# Altium footprint library VOM.PcbLib: 19 footprints (part 1 of 2)
Each footprint in its own frame and in the unit in brackets; x right, y up, seen from the top. Pads: shape width x height; smd on the part's side, far side on the other; paste and mask are expansions set on the pad; w line width, h text height; cw(c..) or ccw(c..) is an arc to the next point about the centre after c.
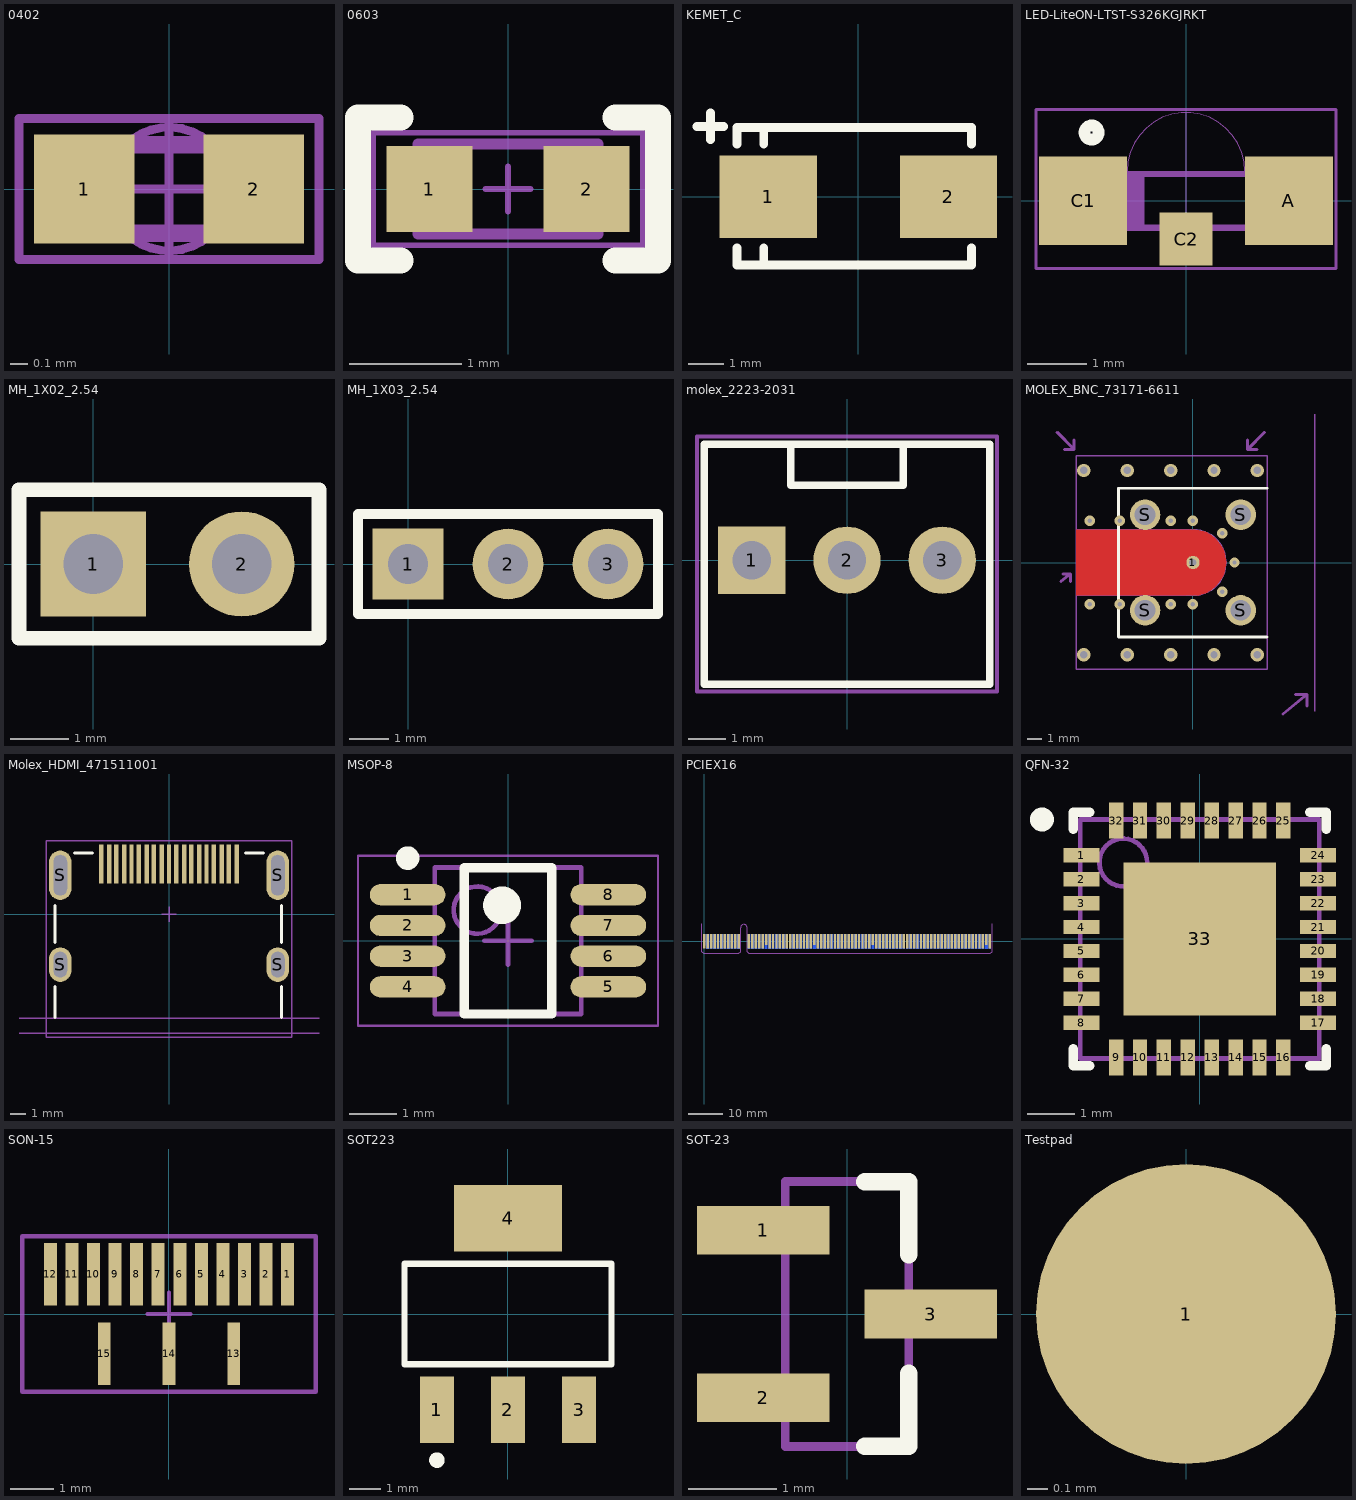
[diagram p0: the footprints below, top view; thin cyan lines are the x and y axes]

## 0402 [mm]
pads (2):
  rect 0.57x0.62 smd: 1(-0.48,0) 2(0.48,0)
Mechanical 13:
  lines w0.1: -0.5,-0.25 -0.5,0.25 0.5,0.25 0.5,-0.25 -0.5,-0.25
Mechanical 15:
  circle w0.05: c0,0 r0.35
  lines w0.05: -0.5,0 0.5,0 ; 0,-0.4 0,0.4 ; -0.85,-0.4 -0.85,0.4 0.85,0.4 0.85,-0.4 -0.85,-0.4
3D body: height 0.35, standoff 0, extent -0.525,-0.275 0.525,0.275

## 0603 [mil]
pads (2):
  rect 30x30 smd: 1(-27.5,0) 2(27.5,0)
Top Overlay:
  lines w9: -37.5,-25 -52.5,-25 -52.5,25 -37.5,25 ; 37.5,-25 52.5,-25 52.5,25 37.5,25
Mechanical 13:
  lines w3.94: -31.5,-15.75 -31.5,15.75 31.5,15.75 31.5,-15.75 -31.5,-15.75
Mechanical 15:
  lines w2: -7.87,0 7.87,0 ; 0,-7.87 0,7.87 ; -47.24,-19.68 -47.24,19.68 47.24,19.68 47.24,-19.68 -47.24,-19.68
3D body: height 18.21, standoff -0.49, extent -32.39,-16.23 32.53,16.25

## KEMET_C [mm]
pads (2):
  rect 2.77x2.35 smd: 1(-2.57,0) 2(2.57,0)
Top Overlay:
  lines w0.254: -4.601,2 -3.839,2 ; -4.22,1.619 -4.22,2.381 ; -3.458,-1.467 -3.458,-1.95 3.23,-1.95 3.23,-1.467 ; -3.458,1.492 -3.458,1.975 3.23,1.975 3.23,1.492 ; -2.696,-1.925 -2.696,-1.467 ; -2.696,1.492 -2.696,1.95
3D body: height 2.81, standoff 0.01, extent -3.245,-1.725 3.055,1.775

## LED-LiteON-LTST-S326KGJRKT [mm]
pads (3):
  rect 1.5x1.5 smd: A(1.75,0) C1(-1.75,0)
  rect 0.9x0.9 smd: C2(0,-0.65)
Top Overlay:
  circle w0.2: c-1.605,1.16 r0.12
Mechanical 1:
  lines w0.05: -2.55,-1.15 -2.55,1.55 2.55,1.55 2.55,-1.15 -2.55,-1.15
Mechanical 2:
  lines w0.01: -1,0.5 cw(c0,0.5) 1,0.5 ; 0,-0.5 0,1.5 ; -1.5,-0.5 -1.5,0.5 1.5,0.5 1.5,-0.5 -1.5,-0.5
Mechanical 3:
  lines w0.1: -1.355,-0.455 -1.355,0.455 ; -1.255,-0.455 -1.255,0.455 ; -1.155,-0.455 -1.155,0.455 ; -1.055,-0.455 -1.055,0.455 ; -0.955,-0.455 -0.955,0.455 ; -0.855,-0.455 -0.855,0.455 ; -0.755,-0.455 -0.755,0.455 ; -1.455,-0.455 1.455,-0.455 1.455,0.455 -1.455,0.455 ; -1.455,-0.455 -1.455,0.455 ; -1.455,-0.455 -1.455,0.455
3D body: height 1, standoff 0, extent -1.5,-0.5 0,0.5
3D body: height 0.9, standoff 0, extent -1,0.5 0,1.5
3D body: height 1, standoff 0, extent 0,-0.5 1.5,0.5
3D body: height 0.9, standoff 0, extent 0,0.5 1,1.5

## MH_1X02_2.54 [mm]
pads (2):
  rect 1.8x1.8 hole 1.02: 1(0,0)
  round 1.8 hole 1.02: 2(2.54,0)
Top Overlay:
  lines w0.254: -1.27,-1.27 -1.27,1.27 3.86,1.27 3.86,-1.27 -1.27,-1.27
3D body: height 8.33, standoff -2.87, extent -1.17,-1.246 3.91,1.253

## MH_1X03_2.54 [mm]
pads (3):
  rect 1.8x1.8 hole 1.02: 1(0,0)
  round 1.8 hole 1.02: 2(2.54,0) 3(5.08,0)
Top Overlay:
  lines w0.254: -1.27,-1.27 -1.27,1.27 6.35,1.27 6.35,-1.27 -1.27,-1.27
3D body: height 8.33, standoff -2.87, extent -1.17,-1.246 6.45,1.253

## molex_2223-2031 [mm]
pads (3):
  rect 1.8x1.8 hole 1.02: 1(-2.54,0)
  round 1.8 hole 1.02: 2(0,0) 3(2.54,0)
Top Overlay:
  lines w0.2: -1.5,3.1 -1.5,2 1.5,2 1.5,3.1 ; -3.8,-3.3 -3.8,3.1 3.8,3.1 3.8,-3.3 -3.8,-3.3
Mechanical 15:
  lines w0.1: -0.5,0 0.5,0 ; 0,-0.5 0,0.5 ; -4,-3.5 -4,3.3 4,3.3 4,-3.5 -4,-3.5
3D body: height 10.68, standoff -3.54, extent -3.734,-3.251 3.734,3.099

## MOLEX_BNC_73171-6611 [mm]
pads (5):
  round 0.9 hole 0.5: 1(0,0)
  round 2.05 hole 1.4: S(-3.22,-3.22) S(-3.22,3.22) S(3.22,-3.22) S(3.22,3.22)
via -1.5,-2.8 diameter 0.7 hole 0.3
via 0,-2.8 diameter 0.7 hole 0.3
via 0,2.8 diameter 0.7 hole 0.3
via -1.5,2.8 diameter 0.7 hole 0.3
via -7.34,6.2 diameter 0.9 hole 0.5
via -4.42,6.2 diameter 0.9 hole 0.5
via -1.5,6.2 diameter 0.9 hole 0.5
via 1.42,6.2 diameter 0.9 hole 0.5
via 4.34,6.2 diameter 0.9 hole 0.5
via -7.34,-6.2 diameter 0.9 hole 0.5
via -4.94,2.8 diameter 0.7 hole 0.3
via -4.94,-2.8 diameter 0.7 hole 0.3
via -6.94,2.8 diameter 0.7 hole 0.3
via -6.94,-2.8 diameter 0.7 hole 0.3
via -4.42,-6.2 diameter 0.9 hole 0.5
via -1.5,-6.2 diameter 0.9 hole 0.5
via 1.42,-6.2 diameter 0.9 hole 0.5
via 4.34,-6.2 diameter 0.9 hole 0.5
via 2.8,0 diameter 0.7 hole 0.3
via 1.98,1.98 diameter 0.7 hole 0.3
via 1.98,-1.98 diameter 0.7 hole 0.3
Top Layer:
  pour cut-out: -7.848,-2.22 0,-2.231 0.435,-2.188 0.854,-2.061 1.239,-1.855 1.577,-1.577 1.855,-1.239 2.061,-0.854 2.188,-0.435 2.231,0 2.188,0.435 2.061,0.854 1.855,1.239 1.577,1.577 1.239,1.855 0.854,2.061 0.435,2.188 0,2.231 0,2.22 -7.848,2.22
Bottom Layer:
  pour cut-out: -0.954,-2.008 -0.854,-2.061 -0.435,-2.188 0,-2.231 0.435,-2.188 0.854,-2.061 1.239,-1.855 1.577,-1.577 1.855,-1.239 2.061,-0.854 2.188,-0.435 2.231,0 2.188,0.435 2.061,0.854 1.855,1.239 1.577,1.577 1.239,1.855 0.854,2.061 0.435,2.188 0,2.231 -0.435,2.188 -0.854,2.061 -0.954,2.008 -0.953,2.005 -0.95,2
Top Overlay:
  lines w0.2: 5,-5 -5,-5 -5,5 5,5
Mechanical 16:
  lines w0.1: -7.825,-7.2 5.002,-7.2 ; -0.953,-2.005 ccw(c0,0) -0.953,2.005 ; -0.95,-2 -0.95,2 ; 8.21,-10 8.21,10 ; -7.848,-7.2 5.002,-7.2 ; -7.848,-7.2 -7.848,-2.22 0,-2.22 ccw(c0,0) 0,2.22 -7.848,2.22 -7.848,7.2 ; -7.848,-7.2 -7.848,7.2 ; -7.848,7.2 5.002,7.2 ; -7.848,7.2 5.002,7.2 ; 5.002,-7.2 5.002,7.2 ; 5.002,-7.2 5.002,7.2 ; -7.848,-0.63 -7.848,0.63 -0.51,0.63 -0.256,0.376 -0.256,-0.376 -0.51,-0.63 -7.848,-0.63
  lines w0.2: -9.144,8.763 -8.001,7.62 ; -8.89,-1.27 -8.255,-0.762 ; -8.763,-0.762 -8.255,-0.762 ; -8.636,7.62 -8.001,7.62 ; -8.255,-1.27 -8.255,-0.762 ; -8.001,8.255 -8.001,7.62 ; 3.683,8.255 3.683,7.62 ; 4.318,7.62 3.683,7.62 ; 4.826,8.763 3.683,7.62 ; 6.05,-10.2 7.675,-8.875 ; 6.9,-8.875 7.675,-8.875 ; 7.675,-9.65 7.675,-8.875
Mechanical 17:
  text "Panel wall (front surface)" at 9.576,-7.976 h0.76
  text "Recommended top ground plane" at -15.15,9.2 h0.76
Mechanical 18:
  text "Recommended track path" at -9.398,-2.921 h0.76
  text "Recommended bottom ground plane" at 5.08,9.144 h0.76
3D body: height 12.42, standoff -1.9, extent -4.957,-7.01 22.733,6.99

## Molex_HDMI_471511001 [mm]
pads (23):
  rect 0.3x2.6 smd: 1(4.5,3.36) 2(4,3.36) 3(3.5,3.36) 4(3,3.36) 5(2.5,3.36) 6(2,3.36) 7(1.5,3.36) 8(1,3.36) 9(0.5,3.36) 10(0,3.36) 11(-0.5,3.36) 12(-1,3.36) 13(-1.5,3.36) 14(-2,3.36) 15(-2.5,3.36) 16(-3,3.36) 17(-3.5,3.36) 18(-4,3.36) 19(-4.5,3.36)
  oval 1.5x2.3 hole 0.9 slot 1.7 at 90 deg: S(-7.25,-3.36) S(7.25,-3.36)
  oval 1.5x3.3 hole 0.9 slot 2.7 at 90 deg: S(-7.25,2.6) S(7.25,2.6)
Top Overlay:
  lines w0.2: -7.6,-6.9 -7.6,-4.8 ; -7.6,-1.9 -7.6,0.6 ; -6.3,4.1 -5.1,4.1 ; 5.1,4.1 6.3,4.1 ; 7.5,-6.9 7.5,-4.8 ; 7.5,-1.9 7.5,0.6
Mechanical 15:
  lines w0.1: -0.5,0 0.5,0 ; 0,-0.5 0,0.5 ; -8.2,-8.2 -8.2,2.7 -8.2,4.9 8.2,4.9 8.2,-8.2 -8.2,-8.2
Mechanical 16:
  lines w0.1: -10,-7.95 10,-7.95 ; -10,-6.95 10,-6.95
Mechanical 17:
  text "Panel wall (front face)" at -7.85,-9.2 h0.76
  text "PCB Edge" at -2.75,-6.2 h0.76
3D body: height 6.28, standoff -2.1, extent -7.55,-8.075 7.45,4.075

## MSOP-8 [mm]
pads (8):
  oval 1.6x0.45 smd: 1(-2.125,0.975) 2(-2.125,0.325) 3(-2.125,-0.325) 4(-2.125,-0.975) 5(2.125,-0.975) 6(2.125,-0.325) 7(2.125,0.325) 8(2.125,0.975)
Top Overlay:
  circle w0.25: c-2.125,1.75 r0.125
  circle w0.4: c-0.125,0.75 r0.2
  lines w0.2: -0.925,-1.55 -0.925,1.55 0.925,1.55 0.925,-1.55 -0.925,-1.55
Mechanical 13:
  circle w0.1: c-0.65,0.65 r0.5
  lines w0.1: -1.55,-1.55 -1.55,1.55 1.55,1.55 1.55,-1.55 -1.55,-1.55
Mechanical 15:
  lines w0.05: -3.175,-1.8 -3.175,1.8 3.175,1.8 3.175,-1.8 -3.175,-1.8
  lines w0.1: -0.5,0 0.5,0 ; 0,-0.5 0,0.5
3D body: height 1.15, standoff 0, extent -2.45,-1.524 2.45,1.476

## PCIEX16 [mm]
pads (164):
  rect 0.7x3.2 smd far side paste-1: A1(0,0.5)
  rect 0.7x4.2 smd far side paste-1: A2(1,0) A3(2,0) A4(3,0) A5(4,0) A6(5,0) A7(6,0) A8(7,0) A9(8,0) A10(9,0) A11(10,0) A12(13,0) A13(14,0) A14(15,0) A15(16,0) A16(17,0) A17(18,0) A18(19,0) A19(20,0) A20(21,0) A21(22,0) A22(23,0) A23(24,0) A24(25,0) A25(26,0) A26(27,0) A27(28,0) A28(29,0) A29(30,0) A30(31,0) A31(32,0) A32(33,0) A33(34,0) A34(35,0) A35(36,0) A36(37,0) A37(38,0) A38(39,0) A39(40,0) A40(41,0) A41(42,0) A42(43,0) A43(44,0) A44(45,0) A45(46,0) A46(47,0) A47(48,0) A48(49,0) A49(50,0) A50(51,0) A51(52,0) A52(53,0) A53(54,0) A54(55,0) A55(56,0) A56(57,0) A57(58,0) A58(59,0) A59(60,0) A60(61,0) A61(62,0) A62(63,0) A63(64,0) A64(65,0) A65(66,0) A66(67,0) A67(68,0) A68(69,0) A69(70,0) A70(71,0) A71(72,0) A72(73,0) A73(74,0) A74(75,0) A75(76,0) A76(77,0) A77(78,0) A78(79,0) A79(80,0) A80(81,0) A81(82,0) A82(83,0)
  rect 0.7x4.2 smd paste-1: B1(0,0) B2(1,0) B3(2,0) B4(3,0) B5(4,0) B6(5,0) B7(6,0) B8(7,0) B9(8,0) B10(9,0) B11(10,0) B12(13,0) B13(14,0) B14(15,0) B15(16,0) B16(17,0) B18(19,0) B19(20,0) B20(21,0) B21(22,0) B22(23,0) B23(24,0) B24(25,0) B25(26,0) B26(27,0) B27(28,0) B28(29,0) B29(30,0) B30(31,0) B32(33,0) B33(34,0) B34(35,0) B35(36,0) B36(37,0) B37(38,0) B38(39,0) B39(40,0) B40(41,0) B41(42,0) B42(43,0) B43(44,0) B44(45,0) B45(46,0) B46(47,0) B47(48,0) B49(50,0) B50(51,0) B51(52,0) B52(53,0) B53(54,0) B54(55,0) B55(56,0) B56(57,0) B57(58,0) B58(59,0) B59(60,0) B60(61,0) B61(62,0) B62(63,0) B63(64,0) B64(65,0) B65(66,0) B66(67,0) B67(68,0) B68(69,0) B69(70,0) B70(71,0) B71(72,0) B72(73,0) B73(74,0) B74(75,0) B75(76,0) B76(77,0) B77(78,0) B78(79,0) B79(80,0) B80(81,0) B82(83,0)
  rect 0.7x3.2 smd paste-1: B17(18,0.5) B31(32,0.5) B48(49,0.5) B81(82,0.5)
Top Solder:
  rectangle: -0.9,-3.75 83.9,2.225
Bottom Solder:
  rectangle: -0.9,-3.75 83.9,2.225
Mechanical 16:
  lines w0.1: -0.65,5.08 -0.65,-3 -0.15,-3.5 10.05,-3.5 10.55,-3 10.55,3.95 cw(c11.5,3.95) 12.45,3.95 12.45,-3 12.95,-3.5 83.15,-3.5 83.65,-3 83.65,5.08
Mechanical 17:
  text "Board edge" at 13.589,-4.826 h0.76

## QFN-32 [mm]
pads (33):
  rect 0.75x0.3 smd: 1(-2.475,1.75) 2(-2.475,1.25) 3(-2.475,0.75) 4(-2.475,0.25) 5(-2.475,-0.25) 6(-2.475,-0.75) 7(-2.475,-1.25) 8(-2.475,-1.75) 17(2.475,-1.75) 18(2.475,-1.25) 19(2.475,-0.75) 20(2.475,-0.25) 21(2.475,0.25) 22(2.475,0.75) 23(2.475,1.25) 24(2.475,1.75)
  rect 0.3x0.75 smd: 9(-1.75,-2.475) 10(-1.25,-2.475) 11(-0.75,-2.475) 12(-0.25,-2.475) 13(0.25,-2.475) 14(0.75,-2.475) 15(1.25,-2.475) 16(1.75,-2.475) 25(1.75,2.475) 26(1.25,2.475) 27(0.75,2.475) 28(0.25,2.475) 29(-0.25,2.475) 30(-0.75,2.475) 31(-1.25,2.475) 32(-1.75,2.475)
  rect 3.2x3.2 smd: 33(0,0)
Top Overlay:
  circle w0.25: c-3.3,2.5 r0.125
  lines w0.2: -2.65,-2.3 -2.65,-2.65 -2.3,-2.65 ; -2.65,2.3 -2.65,2.65 -2.3,2.65 ; 2.3,-2.65 2.65,-2.65 2.65,-2.3 ; 2.3,2.65 2.65,2.65 2.65,2.3
Mechanical 13:
  circle w0.1: c-1.6,1.6 r0.5
  lines w0.1: -2.5,-2.5 2.5,-2.5 2.5,2.5 -2.5,2.5 -2.5,-2.5
3D body: height 0.25, standoff 0, extent -2.5,-2.5 2.5,2.5
3D body: height 1, standoff 0.05, extent -2.5,-2.5 2.5,2.5

## SON-15 [mm]
pads (15):
  rect 0.3x1.45 smd: 1(2.75,0.925) 2(2.25,0.925) 3(1.75,0.925) 4(1.25,0.925) 5(0.75,0.925) 6(0.25,0.925) 7(-0.25,0.925) 8(-0.75,0.925) 9(-1.25,0.925) 10(-1.75,0.925) 11(-2.25,0.925) 12(-2.75,0.925) 13(1.5,-0.925) 14(0,-0.925) 15(-1.5,-0.925)
Mechanical 15:
  lines w0.1: -0.5,0 0.5,0 ; 0,-0.5 0,0.5 ; -3.4,-1.8 3.3,-1.8 3.4,-1.8 3.4,1.8 3.3,1.8 -3.3,1.8 -3.4,1.8 -3.4,-1.8
3D body: height 0.8, standoff -0.01, extent -3.3,-1.3 3.3,1.3

## SOT223 [mm]
pads (4):
  rect 1.1x2.15 smd: 1(-2.3,-3.1) 2(0,-3.1) 3(2.3,-3.1)
  rect 3.5x2.15 smd: 4(0,3.1)
Top Overlay:
  circle w0.25: c-2.3,-4.725 r0.125
  lines w0.2: -3.35,-1.625 3.35,-1.625 3.35,1.625 -3.35,1.625 -3.35,-1.625
3D body: height 1.61, standoff -0.07, extent -3.25,-3.48 3.25,3.48

## SOT-23 [mm]
pads (3):
  rect 1.5x0.55 smd: 1(-0.95,0.95) 2(-0.95,-0.95) 3(0.95,0)
Top Overlay:
  lines w0.2: 0.2,-1.5 0.7,-1.5 0.7,-0.675 ; 0.2,1.5 0.7,1.5 0.7,0.675
Mechanical 13:
  lines w0.1: -0.7,-1.5 0.7,-1.5 0.7,1.5 -0.7,1.5 -0.7,-1.5
3D body: height 1.21, standoff -0.01, extent -1.126,-1.5 1.126,1.5

## Testpad [mm]
pads (1):
  round 1.5 smd: 1(0,0)